# EAGLE library part L86 (library ali_modules)
GNSS module with an embedded patch antenna (18.4mm × 18.4mm × 4mm) and LNA
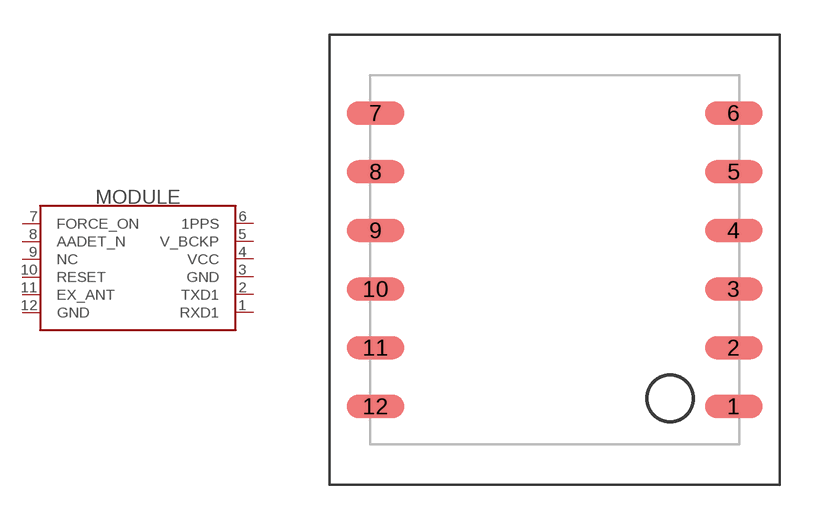
[diagram p15: symbol with the pads of L86; footprint L86]

Designator prefix MODULE

## L86 (MANF: QUECTEL; MANF#: L86-M33)  [L86]
1  RXD1
2  TXD1
3  GND
4  VCC
5  V_BCKP
6  1PPS
7  FORCE_ON
8  AADET_N
9  NC
10  RESET
11  EX_ANT
12  GND

## Footprint L86 (pad centres in mm)
smd 2.5 x 1: 1 7.75,-6.35; 2 7.75,-3.81; 3 7.75,-1.27; 4 7.75,1.27; 5 7.75,3.81; 6 7.75,6.35; 7 -7.75,6.35; 8 -7.75,3.81; 9 -7.75,1.27; 10 -7.75,-1.27; 11 -7.75,-3.81; 12 -7.75,-6.35